# Altium footprint library ICs.PcbLib: 15 footprints
Each footprint in its own frame and in the unit in brackets; x right, y up, seen from the top. Pads: shape width x height; smd on the part's side, far side on the other; paste and mask are expansions set on the pad; w line width, h text height; cw(c..) or ccw(c..) is an arc to the next point about the centre after c.
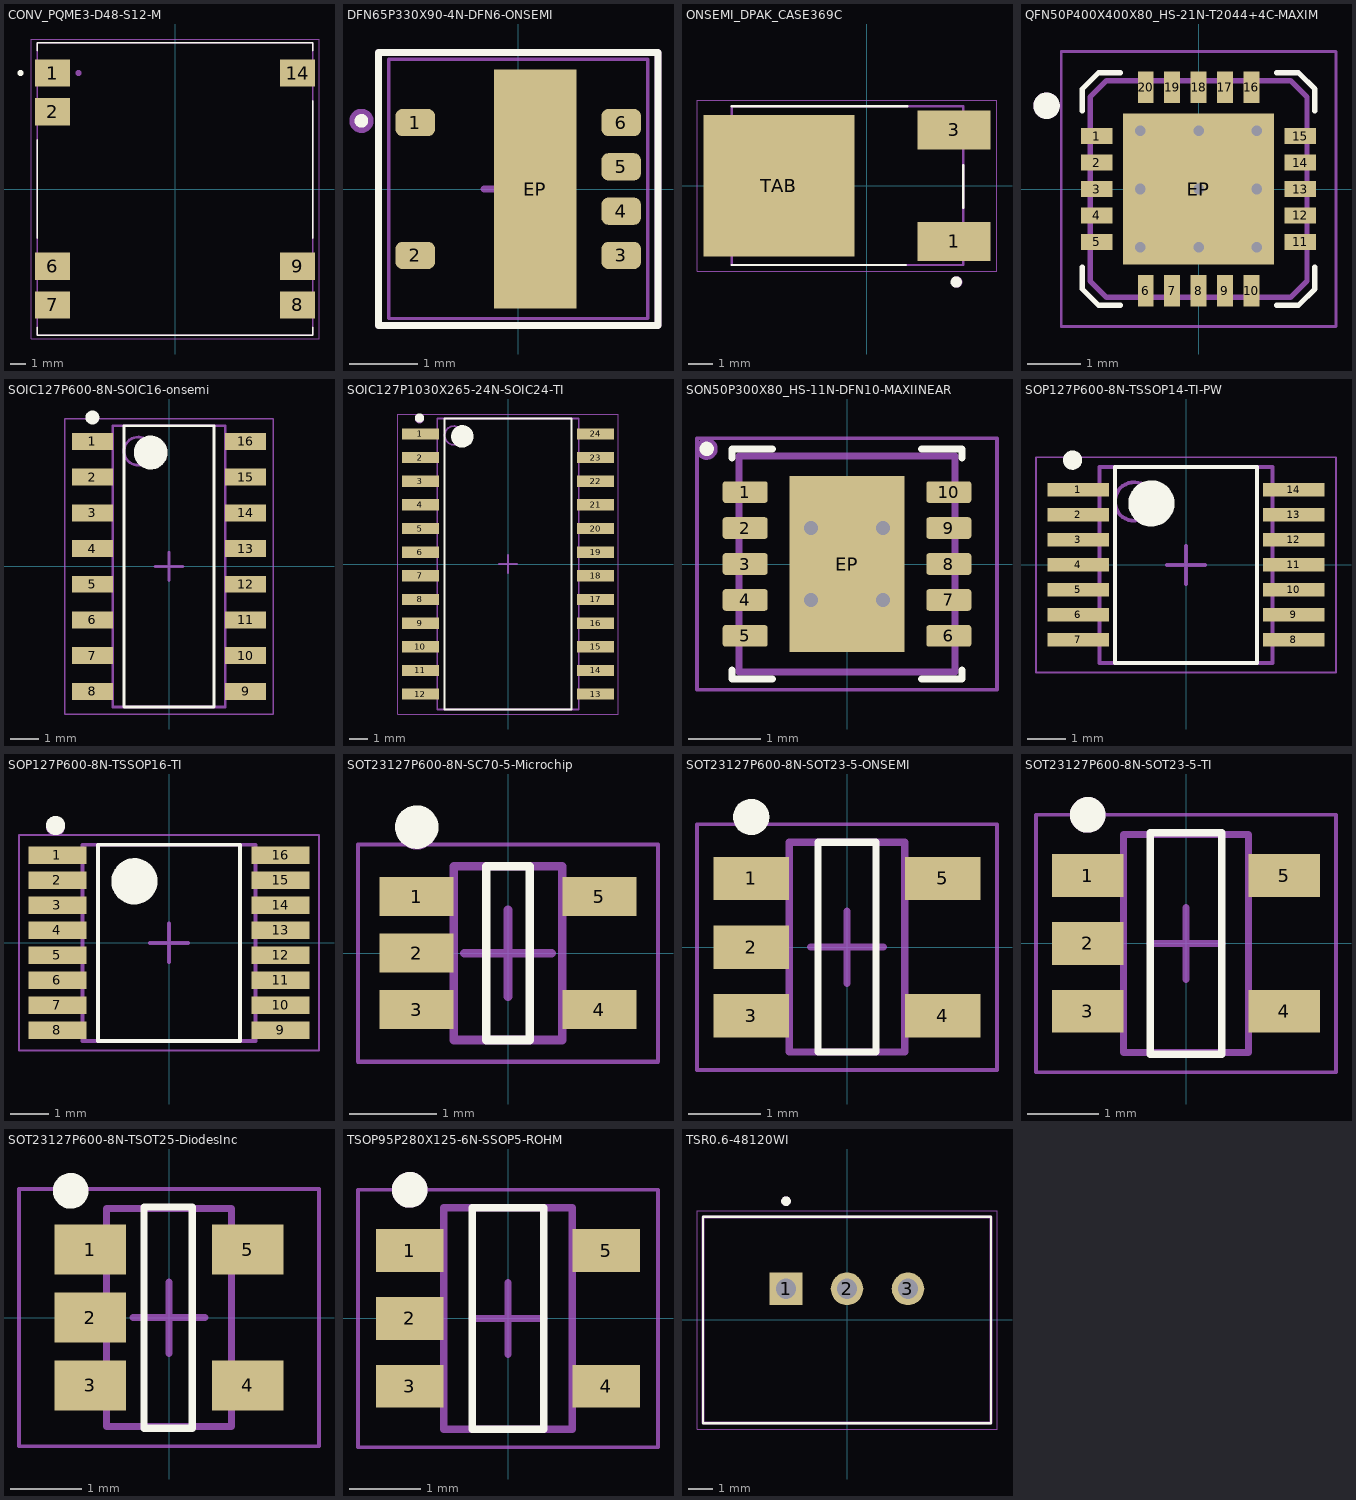
[diagram p0: the footprints below, top view; thin cyan lines are the x and y axes]

## CONV_PQME3-D48-S12-M [mm]
pads (7):
  rect 2.3x1.8 smd: 1(-8.05,7.62) 2(-8.05,5.08) 6(-8.05,-5.08) 7(-8.05,-7.62) 8(8.05,-7.62) 9(8.05,-5.08) 14(8.05,7.62)
Top Overlay:
  circle w0.2: c-10.16,7.62 r0.1
  lines w0.1: -9.05,-9.1 -9.05,-9.6 9.05,-9.6 9.05,-9.1 ; -9.05,-3.25 -9.05,3.25 ; -9.05,9.1 -9.05,9.6 9.05,9.6 9.05,9.1 ; 9.05,-3.25 9.05,5.79
Top Courtyard:
  lines w0.05: -9.45,-9.85 9.45,-9.85 9.45,9.85 -9.45,9.85 -9.45,-9.85
Top Assembly (Mech12):
  circle w0.2: c-6.35,7.62 r0.1
  lines w0.1: -9.05,-9.6 -9.05,9.6 9.05,9.6 9.05,-9.6 -9.05,-9.6
3D body "CUI_PQME3-D48-S12-M.step": height 10.16, standoff 0, extent -9.05,-9.6 9.05,9.6

## DFN65P330X90-4N-DFN6-ONSEMI [mm] "DFN, 4-Leads, Body 3.30x3.30mm, Pitch 0.65mm, IPC Medium Density"
height 0.9
pads (7):
  rrect50% 0.58x0.4 smd: 1(-1.51,0.975) 2(-1.51,-0.975)
  rrect50% 0.58x0.4 smd mask+0.07: 3(1.51,-0.975) 4(1.51,-0.325) 5(1.51,0.325) 6(1.51,0.975)
  rect 1.21x3.5 smd: EP(0.25,0)
Top Overlay:
  circle w0.1: c-2.3,1 r0.05
  lines w0.1: -2.05,-2 2.05,-2 2.05,2 -2.05,2 -2.05,-2
Top Courtyard:
  lines w0.05: -1.9,-1.9 -1.9,1.9 1.9,1.9 1.9,-1.9 -1.9,-1.9
  lines w0.1: -0.5,0 0.5,0 ; 0,-0.5 0,0.5
Top Assembly (Mech12):
  circle w0.254: c-2.3,1 r0.05
  lines w0.1: -2.05,-2 -2.05,2 2.05,2 2.05,-2 -2.05,-2
3D body: height 0.9, standoff 0, extent -1.65,-1.65 1.65,1.65

## ONSEMI_DPAK_CASE369C [mm]
pads (3):
  rect 3x1.6 smd: 1(3.59,-2.285) 3(3.59,2.285)
  rect 6.2x5.8 smd: TAB(-3.59,0)
Top Overlay:
  circle w0.254: c3.68,-3.95 r0.103
  lines w0.1: -5.525,-3.25 1.6,-3.25 ; -5.525,3.25 1.675,3.25 ; 3.975,-0.9 3.975,0.85
Top Courtyard:
  lines w0.05: -6.95,-3.5 5.35,-3.5 5.35,3.5 -6.95,3.5 -6.95,-3.5
Top Assembly (Mech12):
  circle w0.254: c3.7,-3.95 r0.103
  lines w0.1: -5.525,-3.25 3.975,-3.25 3.975,3.25 -5.525,3.25 -5.525,-3.25
3D body "DPAK+.step": height 2.4, standoff 0, extent -5.525,-3.25 3.975,3.25

## QFN50P400X400X80_HS-21N-T2044+4C-MAXIM [mm] "QFN, 20-Leads, Body 4.00x4.00mm, Pitch 0.50mm, Thermal Pad 2.90x2.90mm, IPC Medium Density"
height 0.8
pads (21):
  rect 0.6x0.3 smd mask+0.05: 1(-1.925,1) 2(-1.925,0.5) 3(-1.925,0) 4(-1.925,-0.5) 5(-1.925,-1) 11(1.925,-1) 12(1.925,-0.5) 13(1.925,0) 14(1.925,0.5) 15(1.925,1)
  rect 0.3x0.6 smd mask+0.05: 6(-1,-1.925) 7(-0.5,-1.925) 8(0,-1.925) 9(0.5,-1.925) 10(1,-1.925) 16(1,1.925) 17(0.5,1.925) 18(0,1.925) 19(-0.5,1.925) 20(-1,1.925)
  rect 2.85x2.85 smd mask+0.05: EP(0,0)
via 1.1,-1.1 diameter 0.5 hole 0.2
via 0,-1.1 diameter 0.5 hole 0.2
via -1.1,-1.1 diameter 0.5 hole 0.2
via 1.1,0 diameter 0.5 hole 0.2
via 0,0 diameter 0.5 hole 0.2
via -1.1,0 diameter 0.5 hole 0.2
via 1.1,1.1 diameter 0.5 hole 0.2
via 0,1.1 diameter 0.5 hole 0.2
via -1.1,1.1 diameter 0.5 hole 0.2
Top Overlay:
  circle w0.25: c-2.875,1.575 r0.125
  lines w0.1: -2.2,-1.475 -2.2,-1.89 -1.89,-2.2 -1.475,-2.2 ; -2.2,1.475 -2.2,1.89 -1.89,2.2 -1.475,2.2 ; 1.475,-2.2 1.89,-2.2 2.2,-1.89 2.2,-1.475 ; 1.475,2.2 1.89,2.2 2.2,1.89 2.2,1.475
Top Courtyard:
  lines w0.05: -2.6,-2.6 2.6,-2.6 2.6,2.6 -2.6,2.6 -2.6,-2.6
  lines w0.1: -0.5,0 0.5,0 ; 0,-0.5 0,0.5
Top Assembly (Mech12):
  circle w0.1: c-2.875,1.575 r0.2
  lines w0.1: -2.05,-1.74 -2.05,1.74 -1.74,2.05 1.74,2.05 2.05,1.74 2.05,-1.74 1.74,-2.05 -1.74,-2.05 -2.05,-1.74
3D body "QFN50P400X400X80_HS-21N-T2044+4C-MAXIM.step": height 0.8, standoff 0, extent -2.051,-2.051 2.051,2.051

## SOIC127P600-8N-SOIC16-onsemi [mm]
height 1.75
pads (16):
  rect 1.45x0.6 smd: 1(-2.725,4.445) 2(-2.725,3.175) 3(-2.725,1.905) 4(-2.725,0.635) 5(-2.725,-0.635) 6(-2.725,-1.905) 7(-2.725,-3.175) 8(-2.725,-4.445) 9(2.725,-4.445) 10(2.725,-3.175) 11(2.725,-1.905) 12(2.725,-0.635) 13(2.725,0.635) 14(2.725,1.905) 15(2.725,3.175) 16(2.725,4.445)
Top Overlay:
  circle w0.25: c-2.725,5.295 r0.125
  circle w0.6: c-0.65,4.05 r0.3
  lines w0.1: -1.6,-5 -1.6,5 1.6,5 1.6,-5 -1.6,-5
Top Courtyard:
  lines w0.05: -3.7,-5.25 -3.7,5.25 3.7,5.25 3.7,-5.25 -3.7,-5.25
  lines w0.1: -0.5,0 0.5,0 ; 0,-0.5 0,0.5
Top Assembly (Mech12):
  circle w0.1: c-1.1,4.1 r0.5
  lines w0.1: -2,-5 -2,5 2,5 2,-5 -2,-5
3D body "SOIC127P600-8N-SOIC16-onsemi.step": height 1.75, standoff 0, extent -3,-5 3,5

## SOIC127P1030X265-24N-SOIC24-TI [mm] "SOIC, 24-Leads, Body 15.40x7.50mm, Pitch 1.27mm, IPC Medium Density. Based CD74HC4067M96"
height 2.65
pads (24):
  rect 2x0.6 smd mask+0.07: 1(-4.7,6.985) 2(-4.7,5.715) 3(-4.7,4.445) 4(-4.7,3.175) 5(-4.7,1.905) 6(-4.7,0.635) 7(-4.7,-0.635) 8(-4.7,-1.905) 9(-4.7,-3.175) 10(-4.7,-4.445) 11(-4.7,-5.715) 12(-4.7,-6.985) 13(4.7,-6.985) 14(4.7,-5.715) 15(4.7,-4.445) 16(4.7,-3.175) 17(4.7,-1.905) 18(4.7,-0.635) 19(4.7,0.635) 20(4.7,1.905) 21(4.7,3.175) 22(4.7,4.445) 23(4.7,5.715) 24(4.7,6.985)
Top Overlay:
  circle w0.25: c-4.75,7.835 r0.125
  circle w0.6: c-2.45,6.85 r0.3
  lines w0.1: -3.4,-7.8 -3.4,7.8 3.4,7.8 3.4,-7.8 -3.4,-7.8
Top Courtyard:
  lines w0.05: -5.925,-8.05 -5.925,8.05 5.925,8.05 5.925,-8.05 -5.925,-8.05
  lines w0.1: -0.5,0 0.5,0 ; 0,-0.5 0,0.5
Top Assembly (Mech12):
  circle w0.254: c-4.75,7.8 r0.125
  circle w0.1: c-2.9,6.9 r0.5
  lines w0.1: -3.8,-7.8 -3.8,7.8 3.8,7.8 3.8,-7.8 -3.8,-7.8
3D body "SOIC127P1030X265-24N-SOIC24-TI.step": height 2.65, standoff 0, extent -5.15,-7.8 5.15,7.8

## SON50P300X80_HS-11N-DFN10-MAXIINEAR [mm] "SON, 10-Leads, Body 3.00x3.00mm, Pitch 0.50mm, Thermal Pad 2.30x1.58mm, IPC Medium Density"
height 0.8
pads (11):
  rrect25% 0.625x0.3 smd mask+0.05: 1(-1.415,1) 2(-1.415,0.5) 3(-1.415,0) 4(-1.415,-0.5) 5(-1.415,-1) 6(1.415,-1) 7(1.415,-0.5) 8(1.415,0) 9(1.415,0.5) 10(1.415,1)
  rect 1.6x2.45 smd mask+0.05: EP(0,0)
via 0.5,0.5 diameter 0.5 hole 0.2
via 0.5,-0.5 diameter 0.5 hole 0.2
via -0.5,-0.5 diameter 0.5 hole 0.2
via -0.5,0.5 diameter 0.5 hole 0.2
Top Overlay:
  circle w0.1: c-1.95,1.6 r0.05
  lines w0.1: -1.6,-1.475 -1.6,-1.6 -1.04,-1.6 ; -1.6,1.475 -1.6,1.6 -1.04,1.6 ; 1.04,-1.6 1.6,-1.6 1.6,-1.475 ; 1.04,1.6 1.6,1.6 1.6,1.475
Top Courtyard:
  lines w0.05: -2.085,-1.75 2.085,-1.75 2.085,1.75 -2.085,1.75 -2.085,-1.75
  lines w0.1: -0.5,0 0.5,0 ; 0,-0.5 0,0.5
Top Assembly (Mech12):
  circle w0.1: c-1.95,1.6 r0.103
  lines w0.1: -1.5,-1.5 1.5,-1.5 1.5,1.5 -1.5,1.5 -1.5,-1.5
3D body "SON50P300X80_HS-11N-DFN10-MAXIINEAR.step": height 0.8, standoff 0, extent -1.501,-1.5 1.501,1.5

## SOP127P600-8N-TSSOP14-TI-PW [mm] "INA4180A2IPWR"
height 1.2
pads (14):
  rect 1.6x0.35 smd mask+0.07: 1(-2.8,1.95) 2(-2.8,1.3) 3(-2.8,0.65) 4(-2.8,0) 5(-2.8,-0.65) 6(-2.8,-1.3) 7(-2.8,-1.95) 8(2.8,-1.95) 9(2.8,-1.3) 10(2.8,-0.65) 11(2.8,0) 12(2.8,0.65) 13(2.8,1.3) 14(2.8,1.95)
Top Overlay:
  circle w0.25: c-2.95,2.725 r0.125
  circle w0.6: c-0.9,1.6 r0.3
  lines w0.1: -1.85,-2.55 -1.85,2.55 1.85,2.55 1.85,-2.55 -1.85,-2.55
Top Courtyard:
  lines w0.05: -3.9,-2.8 3.9,-2.8 3.9,2.8 -3.9,2.8 -3.9,-2.8
  lines w0.1: -0.5,0 0.5,0 ; 0,-0.5 0,0.5
Top Assembly (Mech12):
  circle w0.1: c-1.35,1.65 r0.5
  lines w0.1: -2.25,-2.55 -2.25,2.55 2.25,2.55 2.25,-2.55 -2.25,-2.55
3D body "SOP127P600-8N-TSSOP14-TI-PW.step": height 1.2, standoff 0, extent -3.2,-2.55 3.2,2.55

## SOP127P600-8N-TSSOP16-TI [mm]
height 1.2
pads (16):
  rect 1.5x0.45 smd mask+0.05: 1(-2.9,2.275) 2(-2.9,1.625) 3(-2.9,0.975) 4(-2.9,0.325) 5(-2.9,-0.325) 6(-2.9,-0.975) 7(-2.9,-1.625) 8(-2.9,-2.275) 9(2.9,-2.275) 10(2.9,-1.625) 11(2.9,-0.975) 12(2.9,-0.325) 13(2.9,0.325) 14(2.9,0.975) 15(2.9,1.625) 16(2.9,2.275)
Top Overlay:
  circle w0.6: c-0.9,1.6 r0.3
  circle w0.25: c-2.95,3.05 r0.125
  lines w0.1: -1.85,-2.55 1.85,-2.55 1.85,2.55 -1.85,2.55 -1.85,-2.55
Top Courtyard:
  lines w0.05: -3.9,-2.8 3.9,-2.8 3.9,2.8 -3.9,2.8 -3.9,-2.8
  lines w0.1: -0.5,0 0.5,0 ; 0,-0.5 0,0.5
Top Assembly (Mech12):
  circle w0.1: c-2.95,3.025 r0.2
  lines w0.1: -2.25,-2.55 2.25,-2.55 2.25,2.55 -2.25,2.55 -2.25,-2.55
3D body "SOP127P600-8N-TSSOP16-TI.step": height 1.2, standoff 0, extent -3.2,-2.55 3.2,2.55

## SOT23127P600-8N-SC70-5-Microchip [mm] "MCP6006UT-E/LT"
height 1.1
pads (5):
  rect 0.85x0.45 smd: 1(-1.05,0.65) 2(-1.05,0) 3(-1.05,-0.65) 4(1.05,-0.65) 5(1.05,0.65)
Top Overlay:
  circle w0.25: c-1.05,1.45 r0.125
  lines w0.1: -0.25,-1 -0.25,1 0.25,1 0.25,-1 -0.25,-1
Top Courtyard:
  lines w0.05: -1.725,-1.25 1.725,-1.25 1.725,1.25 -1.725,1.25 -1.725,-1.25
  lines w0.1: -0.5,0 0.5,0 ; 0,-0.5 0,0.5
Top Assembly (Mech12):
  circle w0.254: c-1.05,1.425 r0.106
  lines w0.1: -0.625,-1 0.625,-1 0.625,1 -0.625,1 -0.625,-1
3D body "SOT23127P600-8N-SC70-5-Microchip.step": height 1.1, standoff 0, extent -1.15,-1 1.15,1

## SOT23127P600-8N-SOT23-5-ONSEMI [mm] "Based off NCP163ASN180T1G"
height 1.45
pads (5):
  rect 1.05x0.6 smd: 1(-1.325,0.95) 2(-1.325,0) 3(-1.325,-0.95) 4(1.325,-0.95) 5(1.325,0.95)
Top Overlay:
  circle w0.25: c-1.325,1.8 r0.125
  lines w0.1: -0.4,-1.45 0.4,-1.45 0.4,1.45 -0.4,1.45 -0.4,-1.45
Top Courtyard:
  lines w0.05: -2.075,-1.7 -2.075,1.7 2.075,1.7 2.075,-1.7 -2.075,-1.7
  lines w0.1: -0.5,0 0.5,0 ; 0,-0.5 0,0.5
Top Assembly (Mech12):
  lines w0.1: -0.8,-1.45 -0.8,1.45 0.8,1.45 0.8,-1.45 -0.8,-1.45
3D body "SOT23127P600-8N-SOT23-5-ONSEMI.step": height 1.45, standoff 0, extent -1.4,-1.45 1.4,1.45

## SOT23127P600-8N-SOT23-5-TI [mm] "Based off UCC27518DBVR"
height 1.45
pads (5):
  rect 1x0.6 smd: 1(-1.375,0.95) 2(-1.375,0) 3(-1.375,-0.95) 4(1.375,-0.95) 5(1.375,0.95)
Top Overlay:
  circle w0.25: c-1.375,1.8 r0.125
  lines w0.1: -0.5,-1.55 0.5,-1.55 0.5,1.55 -0.5,1.55 -0.5,-1.55
Top Courtyard:
  lines w0.05: -2.1,-1.8 -2.1,1.8 2.1,1.8 2.1,-1.8 -2.1,-1.8
  lines w0.1: -0.5,0 0.5,0 ; 0,-0.5 0,0.5
Top Assembly (Mech12):
  circle w0.25: c-1.375,1.8 r0.125
  lines w0.1: -0.875,-1.525 -0.875,1.525 0.875,1.525 0.875,-1.525 -0.875,-1.525
3D body "SOT23127P600-8N-SOT23-5-TI.step": height 1.45, standoff 0, extent -1.5,-1.525 1.5,1.525

## SOT23127P600-8N-TSOT25-DiodesInc [mm] "Based off DGD0280WT-7"
height 1
pads (5):
  rect 1x0.7 smd mask+0.07: 1(-1.1,0.95) 2(-1.1,0) 3(-1.1,-0.95)
  rect 1x0.7 smd: 4(1.1,-0.95) 5(1.1,0.95)
Top Overlay:
  circle w0.25: c-1.375,1.775 r0.125
  lines w0.1: -0.35,-1.55 0.325,-1.55 0.325,1.55 -0.35,1.55 -0.35,-1.55
Top Courtyard:
  lines w0.05: -2.1,-1.8 -2.1,1.8 2.1,1.8 2.1,-1.8 -2.1,-1.8
  lines w0.1: -0.5,0 0.5,0 ; 0,-0.5 0,0.5
Top Assembly (Mech12):
  circle w0.254: c-1.375,1.8 r0.079
  lines w0.1: -0.875,-1.525 -0.875,1.525 0.875,1.525 0.875,-1.525 -0.875,-1.525
3D body "SOT23127P600-8N-TSOT25-DiodesInc.step": height 1, standoff 0, extent -1.5,-1.525 1.5,1.525

## TSOP95P280X125-6N-SSOP5-ROHM [mm] "TSOP, 6-Leads, Body 2.90x1.65mm, Pitch 0.95mm, IPC Medium Density, Based off BD42500G-CTR"
height 1.25
pads (5):
  rect 0.95x0.6 smd: 1(-1.375,0.95) 2(-1.375,0) 3(-1.375,-0.95) 4(1.375,-0.95) 5(1.375,0.95)
Top Overlay:
  circle w0.25: c-1.375,1.8 r0.125
  lines w0.1: -0.5,-1.55 -0.5,1.55 0.5,1.55 0.5,-1.55 -0.5,-1.55
Top Courtyard:
  lines w0.05: -2.1,-1.8 -2.1,1.8 2.1,1.8 2.1,-1.8 -2.1,-1.8
  lines w0.1: -0.5,0 0.5,0 ; 0,-0.5 0,0.5
Top Assembly (Mech12):
  circle w0.25: c-1.375,1.8 r0.125
  lines w0.1: -0.9,-1.55 -0.9,1.55 0.9,1.55 0.9,-1.55 -0.9,-1.55
3D body "TSOP95P280X125-6N-SSOP5-ROHM.step": height 1.25, standoff 0, extent -1.4,-1.55 1.4,1.55

## TSR0.6-48120WI [mm]
pads (3):
  rect 1.358x1.358 hole 0.85: 1(-2.54,1.3)
  round 1.358 hole 0.85: 2(0,1.3) 3(2.54,1.3)
Top Overlay:
  circle w0.2: c-2.54,4.95 r0.1
  circle w0.2: c-2.54,4.95 r0.1
  lines w0.1: -6,-4.3 -6,4.3 6,4.3 6,-4.3 -6,-4.3
Top Courtyard:
  lines w0.05: -6.25,-4.55 -6.25,4.55 6.25,4.55 6.25,-4.55 -6.25,-4.55
Top Assembly (Mech12):
  circle w0.2: c-2.54,4.95 r0.1
  lines w0.127: -6,-4.3 -6,4.3 6,4.3 6,-4.3 -6,-4.3
3D body "TSR 0.6-48120WI--3DModel-STEP-455445.STEP": height 13.4, standoff -4.1, extent -6,-4.3 6,4.3